# Altium footprint library PCBLIB-PCSB_5.1.3.PcbLib: 181 footprints (part 4 of 12)
Each footprint in its own frame and in the unit in brackets; x right, y up, seen from the top. Pads: shape width x height; smd on the part's side, far side on the other; paste and mask are expansions set on the pad; w line width, h text height; cw(c..) or ccw(c..) is an arc to the next point about the centre after c.
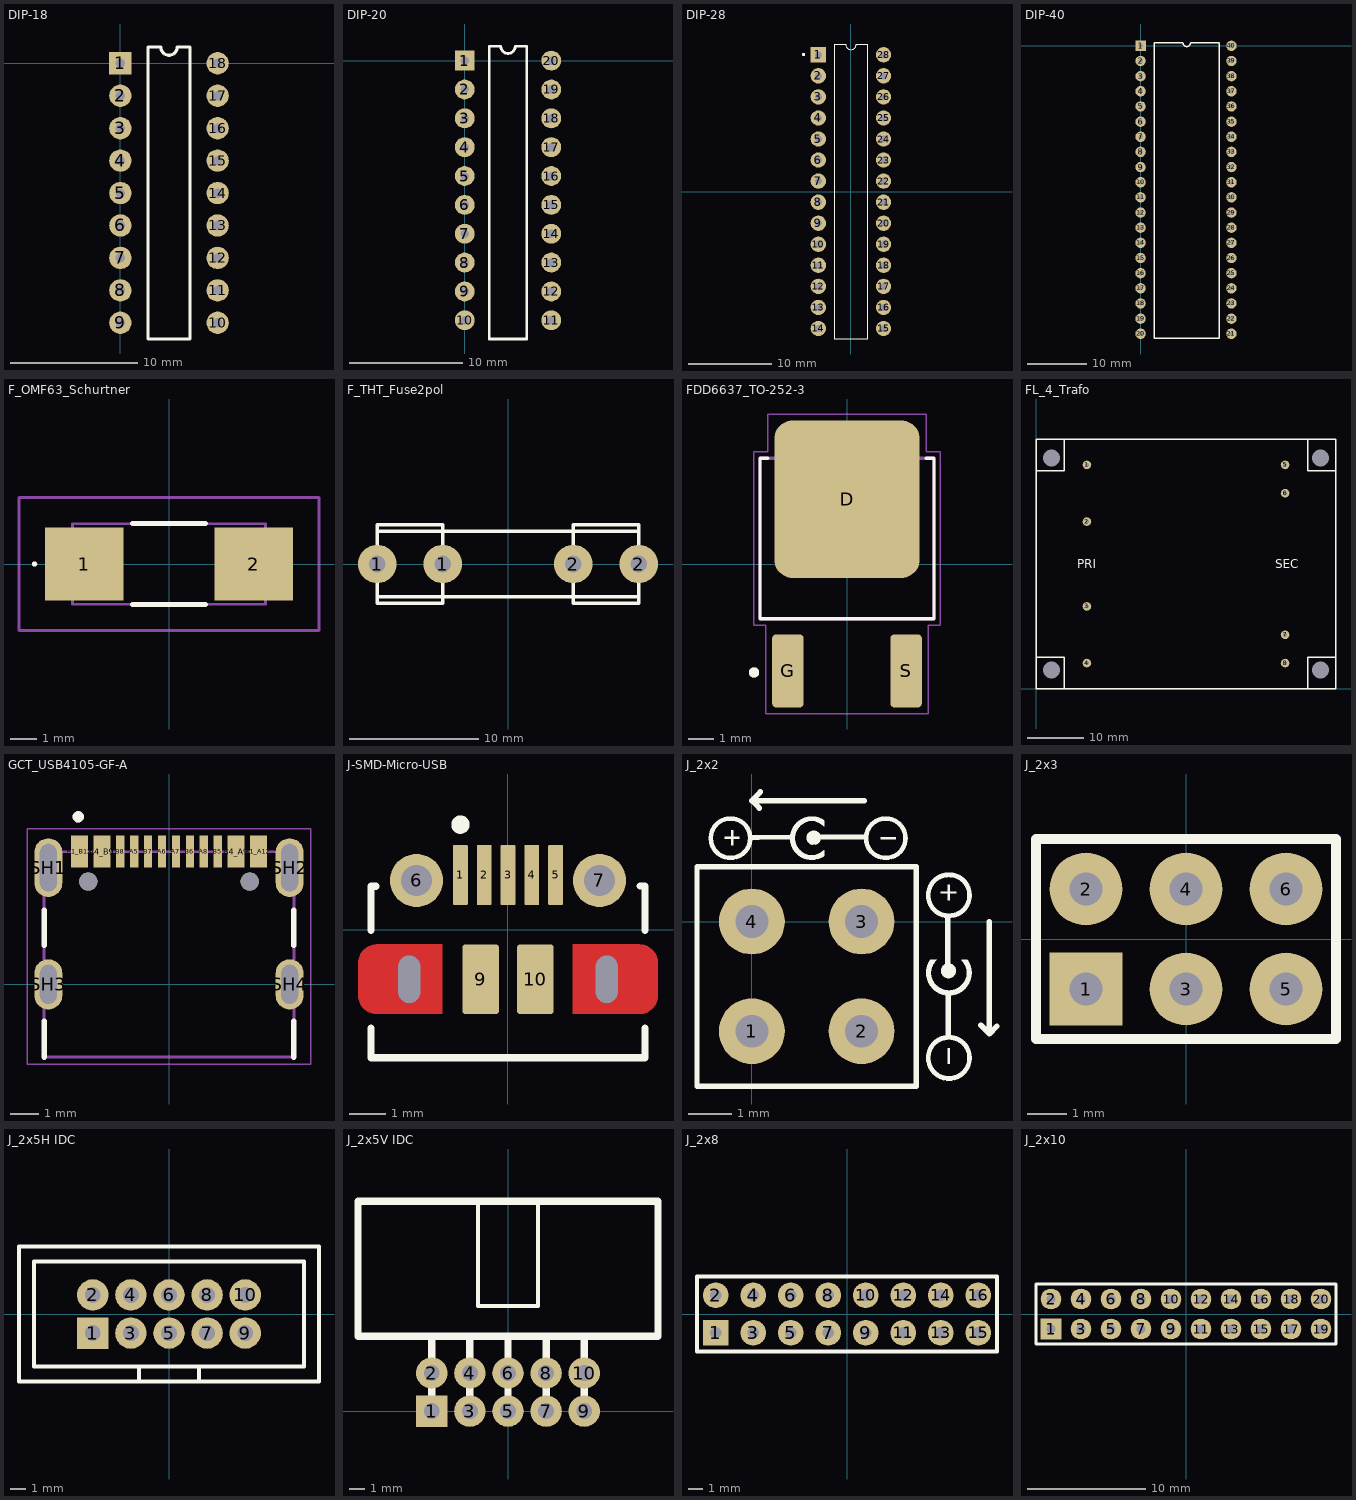
[diagram p3: the footprints below, top view; thin cyan lines are the x and y axes]

## DIP-18 [mm] "LB-2024-04-17"
pads (18):
  rect 1.75x1.75 hole 0.75: 1(0,0)
  round 1.75 hole 0.75: 2(0,-2.54) 3(0,-5.08) 4(0,-7.62) 5(0,-10.16) 6(0,-12.7) 7(0,-15.24) 8(0,-17.78) 9(0,-20.32) 10(7.62,-20.32) 11(7.62,-17.78) 12(7.62,-15.24) 13(7.62,-12.7) 14(7.62,-10.16) 15(7.62,-7.62) 16(7.62,-5.08) 17(7.62,-2.54) 18(7.62,0)
Top Overlay:
  lines w0.254: 2.159,-21.59 5.461,-21.59 5.461,1.27 4.445,1.27 cw(c3.81,1.27) 3.175,1.27 2.159,1.27 2.159,-21.59

## DIP-20 [mm] "LB-2024-04-17"
pads (20):
  rect 1.75x1.75 hole 0.75: 1(0,0)
  round 1.75 hole 0.75: 2(0,-2.54) 3(0,-5.08) 4(0,-7.62) 5(0,-10.16) 6(0,-12.7) 7(0,-15.24) 8(0,-17.78) 9(0,-20.32) 10(0,-22.86) 11(7.62,-22.86) 12(7.62,-20.32) 13(7.62,-17.78) 14(7.62,-15.24) 15(7.62,-12.7) 16(7.62,-10.16) 17(7.62,-7.62) 18(7.62,-5.08) 19(7.62,-2.54) 20(7.62,0)
Top Overlay:
  lines w0.254: 2.159,-24.511 5.461,-24.511 5.461,1.27 4.445,1.27 cw(c3.81,1.27) 3.175,1.27 2.159,1.27 2.159,-24.511

## DIP-28 [mm] "LB-2024-04-17"
pads (28):
  rect 1.85x1.85 hole 0.85: 1(-3.935,16.51)
  round 1.85 hole 0.85: 2(-3.935,13.97) 3(-3.935,11.43) 4(-3.935,8.89) 5(-3.935,6.35) 6(-3.935,3.81) 7(-3.935,1.27) 8(-3.935,-1.27) 9(-3.935,-3.81) 10(-3.935,-6.35) 11(-3.935,-8.89) 12(-3.935,-11.43) 13(-3.935,-13.97) 14(-3.935,-16.51) 15(3.935,-16.51) 16(3.935,-13.97) 17(3.935,-11.43) 18(3.935,-8.89) 19(3.935,-6.35) 20(3.935,-3.81) 21(3.935,-1.27) 22(3.935,1.27) 23(3.935,3.81) 24(3.935,6.35) 25(3.935,8.89) 26(3.935,11.43) 27(3.935,13.97) 28(3.935,16.51)
Top Overlay:
  circle w0.2: c-5.714,16.544 r0.1
  lines w0.14: -0.66,17.78 -1,17.78 -2,17.78 -2,-17.78 2,-17.78 2,17.78 ; -0.635,17.78 ccw(c0,17.78) 0.635,17.78 ; 0.642,17.78 1.642,17.78 1.981,17.78
Mechanical 13:
  circle w0.2: c-5.714,16.544 r0.1

## DIP-40 [mm] "LB-2024-04-17"
pads (40):
  rect 1.75x1.75 hole 0.75: 1(0,0)
  round 1.75 hole 0.75: 2(0,-2.54) 3(0,-5.08) 4(0,-7.62) 5(0,-10.16) 6(0,-12.7) 7(0,-15.24) 8(0,-17.78) 9(0,-20.32) 10(0,-22.86) 11(0,-25.4) 12(0,-27.94) 13(0,-30.48) 14(0,-33.02) 15(0,-35.56) 16(0,-38.1) 17(0,-40.64) 18(0,-43.18) 19(0,-45.72) 20(0,-48.26) 21(15.24,-48.26) 22(15.24,-45.72) 23(15.24,-43.18) 24(15.24,-40.64) 25(15.24,-38.1) 26(15.24,-35.56) 27(15.24,-33.02) 28(15.24,-30.48) 29(15.24,-27.94) 30(15.24,-25.4) 31(15.24,-22.86) 32(15.24,-20.32) 33(15.24,-17.78) 34(15.24,-15.24) 35(15.24,-12.7) 36(15.24,-10.16) 37(15.24,-7.62) 38(15.24,-5.08) 39(15.24,-2.54) 40(15.24,0)
Top Overlay:
  lines w0.254: 2.286,-49.022 13.208,-49.022 13.208,0.508 8.382,0.508 cw(c7.747,0.508) 7.112,0.508 2.286,0.508 2.286,-49.022

## F_OMF63_Schurtner [mm]
pads (2):
  rect 3x2.8 smd: 1(-3.25,0) 2(3.25,0)
Top Overlay:
  lines w0.1: -5.2,0 cw(c-5.15,0) -5.1,0 cw(c-5.15,0) -5.2,0
  lines w0.2: -1.4,-1.55 1.4,-1.55 ; -1.4,1.55 1.4,1.55
Mechanical 15:
  lines w0.1: -3.7,-1.55 -3.7,1.55 3.7,1.55 3.7,-1.55 -3.7,-1.55
Mechanical 20:
  lines w0.1: -5.75,-2.55 -5.75,2.55 5.75,2.55 5.75,-2.55 -5.75,-2.55

## F_THT_Fuse2pol [mm] "LB-2024-04-17"
pads (4):
  round 3 hole 1.3: 1(-10.163,0.008) 1(-5.083,0.008) 2(5.077,0.008) 2(10.157,0.008)
Top Overlay:
  lines w0.254: -10.163,-2.532 -10.163,-3.04 -5.083,-3.04 -5.083,-2.532 -5.083,2.548 -5.083,3.056 -10.163,3.056 -10.163,2.548 ; -10.163,-2.532 10.157,-2.532 ; -10.163,-2.532 -10.163,2.548 ; -10.163,2.548 10.157,2.548 ; 10.157,-2.532 10.157,-3.04 5.077,-3.04 5.077,-2.532 5.077,2.548 5.077,3.056 10.157,3.056 10.157,2.548 ; 10.157,-2.532 10.157,2.548

## FDD6637_TO-252-3 [mm]
pads (3):
  rrect25% 5.63x6.1 smd paste-4: D(0,2.51)
  rrect25% 1.22x2.83 smd: G(-2.29,-4.14) S(2.29,-4.14)
Top Overlay:
  circle w0.2: c-3.6,-4.2 r0.1
  lines w0.127: -3.07,4.098 -3.37,4.098 -3.37,-2.123 3.37,-2.123 3.37,4.098 3.07,4.098
Top Paste:
  region: 1.73,0.861 -1.733,0.861 -1.733,4.16 1.73,4.16
Mechanical 13:
  circle w0.2: c-3.6,-4.2 r0.1
  lines w0.127: -3.37,-2.123 -3.37,4.098 3.37,4.098 3.37,-2.123 -3.37,-2.123
Mechanical 15:
  lines w0.05: -3.62,-2.38 -3.62,4.35 -3.07,4.35 -3.07,5.81 3.07,5.81 3.07,4.35 3.62,4.35 3.62,-2.38 3.15,-2.38 3.15,-5.81 -3.15,-5.81 -3.15,-2.38 -3.62,-2.38

## FL_4_Trafo [mm]
pads (12):
  round 0 hole 3 unplated: 0(2.75,3.25) 0(2.75,40.75) 0(50.25,3.25) 0(50.25,40.75)
  round 1.524 hole 0.762: 1(9,39.5) 2(9,29.5) 3(9,14.5) 4(9,4.5) 5(44,39.5) 6(44,34.5) 7(44,9.5) 8(44,4.5)
Top Overlay:
  lines w0.254: 0,5.5 5,5.5 5,0 ; 0,38.5 5,38.5 5,44 ; 48,0 48,5.5 53,5.5 ; 48,44 48,38.5 53,38.5 ; 0,0 0,44 53,44 53,0 0,0
  text "PRI" at 7.254,21.254 h1.52
  text "SEC" at 42.254,21.254 h1.52
Multi-Layer:
  circle w0.254: c2.75,2.75 r0.25

## GCT_USB4105-GF-A [mm] "USB-C: Power + USB 2.0"
height 3.31
pads (18):
  rect 0.6x1.15 smd mask+0.05: A1_B12(-3.2,4.755) A4_B9(-2.4,4.755) B1_A12(3.2,4.755) B4_A9(2.4,4.755)
  rect 0.3x1.15 smd mask+0.05: A5(-1.25,4.755) A6(-0.25,4.755) A7(0.25,4.755) A8(1.25,4.755) B5(1.75,4.755) B6(0.75,4.755) B7(-0.75,4.755) B8(-1.75,4.755)
  oval 1x2.1 hole 0.6 slot 1.7 at 90 deg: SH1(-4.32,4.18) SH2(4.32,4.18)
  oval 1x1.8 hole 0.6 slot 1.4 at 90 deg: SH3(-4.32,0) SH4(4.32,0)
  round 0.65 hole 0.65 unplated: ""(-2.89,3.68) ""(2.89,3.68)
Top Overlay:
  circle w0.2: c-3.25,6 r0.1
  lines w0.2: -4.47,-2.6 -4.47,-1.32 ; -4.47,1.4 -4.47,2.65 ; 4.47,-2.6 4.47,-1.32 ; 4.47,1.4 4.47,2.65
Mechanical 13:
  circle w0.2: c-3.25,6 r0.1
  lines w0.1: -4.47,-2.6 -4.47,4.75 4.47,4.75 4.47,-2.6 -4.47,-2.6
  text "PCB EDGE" at -1.7,-2.4 h0.41
Mechanical 15:
  lines w0.05: -5.07,-2.85 5.07,-2.85 5.07,5.58 -5.07,5.58 -5.07,-2.85

## J-SMD-Micro-USB [mm] "LB-2024-04-18"
height 2.673
pads (11):
  rrect15% 0.4x1.65 smd paste-0.02 mask+0.05: 1(-1.3,1.5) 2(-0.65,1.5) 3(0,1.5) 4(0.65,1.5) 5(1.3,1.5)
  round 1.45 hole 0.85: 6(-2.5,1.35) 7(2.5,1.35)
  rrect50% 0x0 hole 0.6 slot 1.3 at 90 deg: 8(-2.7,-1.35) 11(2.7,-1.35)
  rrect15% 1x1.9 smd paste-0.02 mask+0.05: 9(-0.75,-1.35) 10(0.75,-1.35)
Top Layer:
  circle w0.5: c-3.6,-1.8 r0.25
  circle w0.5: c-3.6,-0.9 r0.25
  circle w0.5: c3.6,-1.8 r0.25
  circle w0.5: c3.6,-0.9 r0.25
  region: -1.8,-2.3 -1.8,-0.4 -3.6,-0.4 -3.6,-2.3
  region: -3.6,-1.8 -3.6,-0.9 -4.1,-0.9 -4.1,-1.8
  region: 1.775,-0.4 1.775,-2.3 3.6,-2.3 3.6,-0.4
  region: 3.6,-0.9 3.6,-1.8 4.1,-1.8 4.1,-0.9
Top Overlay:
  circle w0.25: c-1.3,2.875 r0.125
  lines w0.2: -3.745,-2.688 -3.745,-3.5 3.745,-3.5 3.745,-2.688 ; -3.745,-0.012 -3.745,1.195 -3.614,1.195 ; 3.615,1.2 3.745,1.2 3.745,-0.012

## J_2x2 [mil] "LB-2024-05-28"
pads (4):
  round 60 hole 30: 1(0,-100) 2(100,-100) 3(100,0) 4(0,0)
Top Overlay:
  drawing of 20 lines, arcs and shapes, not listed

## J_2x3 [mm] "LB-2024-04-19"
pads (6):
  rect 1.85x1.85 hole 0.85 mask+0.102: 1(-2.54,-1.27)
  round 1.85 hole 0.85 mask+0.102: 2(-2.54,1.27) 3(0,-1.27) 4(0,1.27) 5(2.54,-1.27) 6(2.54,1.27)
Top Overlay:
  lines w0.254: -3.81,-2.54 3.81,-2.54 3.81,2.54 -3.81,2.54 -3.81,-2.54

## J_2x5H IDC [mm] "LB-2024-04-19"
height 9
pads (10):
  rect 2.1x2.1 hole 1.05 mask+0.102: 1(-5.08,-1.27)
  round 2.1 hole 1.05 mask+0.102: 2(-5.08,1.27) 3(-2.54,-1.27) 4(-2.54,1.27) 5(0,-1.27) 6(0,1.27) 7(2.54,-1.27) 8(2.54,1.27) 9(5.08,-1.27) 10(5.08,1.27)
Top Overlay:
  lines w0.254: -2,-4.5 -2,-3.5 ; -0.5,4.5 10,4.5 10,-4.5 -10,-4.5 -10,4.5 0,4.5 ; 2,-4.5 2,-3.5 ; -9,-3.5 -9,3.5 9,3.5 9,-3.5 -9,-3.5

## J_2x5V IDC [mm] "LB-2024-04-19"
height 9
pads (10):
  rect 2.1x2.1 hole 1.05 mask+0.102: 1(-5.08,0)
  round 2.1 hole 1.05 mask+0.102: 2(-5.08,2.54) 3(-2.54,0) 4(-2.54,2.54) 5(0,0) 6(0,2.54) 7(2.54,0) 8(2.54,2.54) 9(5.08,0) 10(5.08,2.54)
Top Overlay:
  lines w0.254: -2,14 -2,7 2,7 2,14
  lines w0.5: -5.08,0 -5.08,5 ; -2.54,0 -2.54,5 ; 0,0 0,5 ; 2.54,0 2.54,5 ; 5.08,0 5.08,5 ; 0,5 -10,5 -10,14 10,14 10,5 0,5

## J_2x8 [mm] "LB-2024-04-19"
pads (16):
  rect 1.75x1.75 hole 0.75: 1(-8.89,-1.27)
  round 1.75 hole 0.75: 2(-8.89,1.27) 3(-6.35,-1.27) 4(-6.35,1.27) 5(-3.81,-1.27) 6(-3.81,1.27) 7(-1.27,-1.27) 8(-1.27,1.27) 9(1.27,-1.27) 10(1.27,1.27) 11(3.81,-1.27) 12(3.81,1.27) 13(6.35,-1.27) 14(6.35,1.27) 15(8.89,-1.27) 16(8.89,1.27)
Top Overlay:
  lines w0.254: -10.16,-2.54 10.16,-2.54 10.16,2.54 -10.16,2.54 -10.16,-2.54

## J_2x10 [mm] "LB-2024-4-19"
pads (20):
  rect 1.75x1.75 hole 0.75: 1(-11.43,-1.27)
  round 1.75 hole 0.75: 2(-11.43,1.27) 3(-8.89,-1.27) 4(-8.89,1.27) 5(-6.35,-1.27) 6(-6.35,1.27) 7(-3.81,-1.27) 8(-3.81,1.27) 9(-1.27,-1.27) 10(-1.27,1.27) 11(1.27,-1.27) 12(1.27,1.27) 13(3.81,-1.27) 14(3.81,1.27) 15(6.35,-1.27) 16(6.35,1.27) 17(8.89,-1.27) 18(8.89,1.27) 19(11.43,-1.27) 20(11.43,1.27)
Top Overlay:
  lines w0.254: -12.7,-2.54 -12.7,2.54 12.7,2.54 12.7,-2.54 -12.7,-2.54